# Altium schematic symbol library Transistor_BJT.SchLib: 390 symbols (part 1 of 3)
Pins are listed as number, name and electrical type; pins without a type are passive.

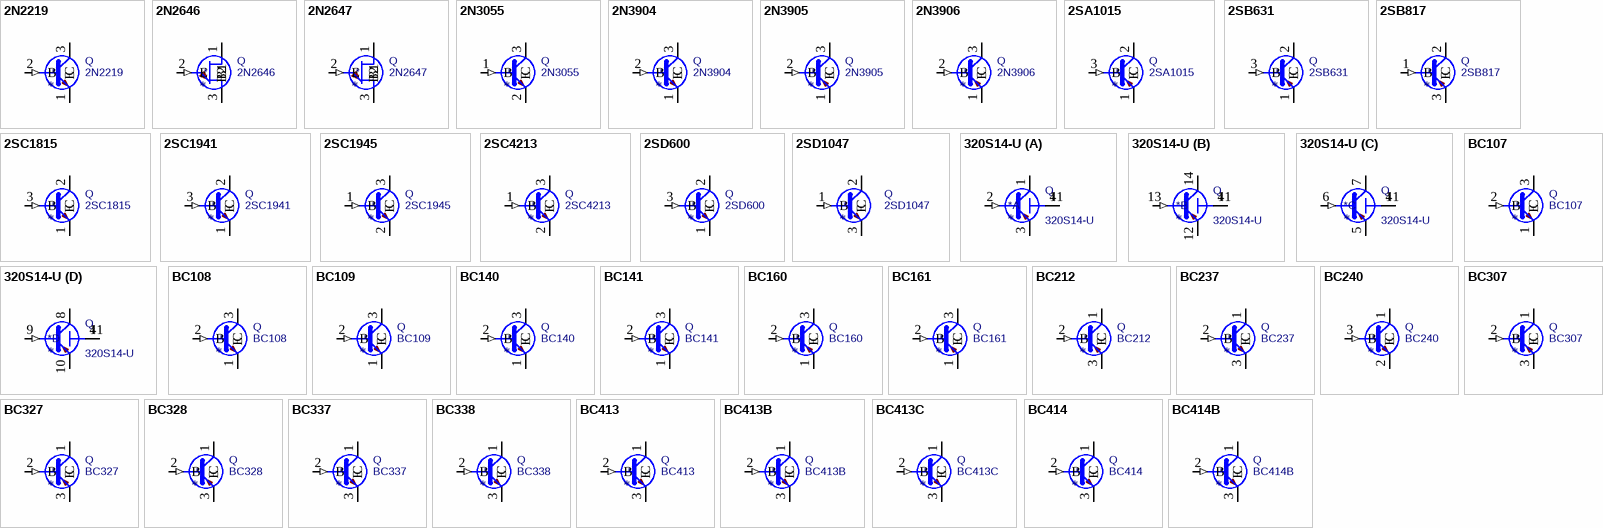
[diagram p0: symbols 2N2219 to BC414B]

## 2N2219
designator *  value 2N2219  Reference: Q
800mA Ic, 50V Vce, NPN Transistor, TO-39; ki_fp_filters: TO?39*; Footprint: Package_TO_SOT_THT:TO-39-3; Datasheet: http://www.onsemi.com/pub_link/Collateral/2N2219-D.PDF; Description_: 800mA Ic, 50V Vce, NPN Transistor, TO-39; ki_keywords: NPN Transistor
pins: 1 E, 2 B (in), 3 C

## 2N2646
designator *  value 2N2646  Reference: Q
Unijunction Transistor, TO-18; ki_keywords: UJT; ki_fp_filters: TO?18*; Footprint: Package_TO_SOT_THT:TO-18-3; Datasheet: http://www.bucek.name/pdf/2n2646,2647.pdf; Description_: Unijunction Transistor, TO-18
pins: 1 B2, 2 E (in), 3 B1

## 2N2647
designator *  value 2N2647  Reference: Q
Unijunction Transistor, TO-18; ki_keywords: UJT; ki_fp_filters: TO?18*; Footprint: Package_TO_SOT_THT:TO-18-3; Datasheet: http://www.bucek.name/pdf/2n2646,2647.pdf; Description_: Unijunction Transistor, TO-18
pins: 1 B2, 2 E (in), 3 B1

## 2N3055
designator *  value 2N3055  Reference: Q
15A Ic, 60V Vce, Power NPN Transistor, TO-3; ki_fp_filters: TO?3*; Footprint: Package_TO_SOT_THT:TO-3; Datasheet: http://www.onsemi.com/pub_link/Collateral/2N3055-D.PDF; Description_: 15A Ic, 60V Vce, Power NPN Transistor, TO-3; ki_keywords: power NPN Transistor
pins: 1 B (in), 2 E, 3 C

## 2N3904
designator *  value 2N3904  Reference: Q
0.2A Ic, 40V Vce, Small Signal NPN Transistor, TO-92; ki_fp_filters: TO?92*; Footprint: Package_TO_SOT_THT:TO-92_Inline; Datasheet: https://www.onsemi.com/pub/Collateral/2N3903-D.PDF; Description_: 0.2A Ic, 40V Vce, Small Signal NPN Transistor, TO-92; ki_keywords: NPN Transistor
pins: 1 E, 2 B (in), 3 C

## 2N3905
designator *  value 2N3905  Reference: Q
-0.2A Ic, -40V Vce, Small Signal PNP Transistor, TO-92; ki_fp_filters: TO?92*; Footprint: Package_TO_SOT_THT:TO-92_Inline; Datasheet: https://www.nteinc.com/specs/original/2N3905_06.pdf; Description_: -0.2A Ic, -40V Vce, Small Signal PNP Transistor, TO-92; ki_keywords: PNP Transistor
pins: 1 E, 2 B (in), 3 C

## 2N3906
designator *  value 2N3906  Reference: Q
-0.2A Ic, -40V Vce, Small Signal PNP Transistor, TO-92; ki_fp_filters: TO?92*; Footprint: Package_TO_SOT_THT:TO-92_Inline; Datasheet: https://www.onsemi.com/pub/Collateral/2N3906-D.PDF; Description_: -0.2A Ic, -40V Vce, Small Signal PNP Transistor, TO-92; ki_keywords: PNP Transistor
pins: 1 E, 2 B (in), 3 C

## 2SA1015
designator *  value 2SA1015  Reference: Q
-0.15A Ic, -50V Vce, Low Noise Audio PNP Transistor, TO-92; ki_fp_filters: TO?92*; Footprint: Package_TO_SOT_THT:TO-92_Inline; Datasheet: http://www.datasheetcatalog.org/datasheet/toshiba/905.pdf; Description_: -0.15A Ic, -50V Vce, Low Noise Audio PNP Transistor, TO-92; ki_keywords: Low Noise Audio PNP Transistor
pins: 1 E, 2 C, 3 B (in)

## 2SB631
designator *  value 2SB631  Reference: Q
-1A Ic, -100V Vce, High Voltage Power PNP Transistor, TO-126; ki_keywords: High Voltage Transistor; ki_fp_filters: TO?126*; Footprint: Package_TO_SOT_THT:TO-126-3_Vertical; Datasheet: http://pdf.datasheetcatalog.com/datasheet/sanyo/ds_pdf_e/2SB631.pdf; Description_: -1A Ic, -100V Vce, High Voltage Power PNP Transistor, TO-126
pins: 1 E, 2 C, 3 B (in)

## 2SB817
designator *  value 2SB817  Reference: Q
-12A Ic, -140V Vce, Silicon Power PNP Transistors, TO-3PB; ki_fp_filters: TO?3PB*; Footprint: Package_TO_SOT_THT:TO-3PB-3_Vertical; Datasheet: http://skory.gylcomp.hu/alkatresz/2SB817.pdf; Description_: -12A Ic, -140V Vce, Silicon Power PNP Transistors, TO-3PB; ki_keywords: Power PNP Transistor
pins: 1 B (in), 2 C, 3 E

## 2SC1815
designator *  value 2SC1815  Reference: Q
0.15A Ic, 50V Vce, Low Noise Audio NPN Transistor, TO-92; ki_fp_filters: TO?92*; Footprint: Package_TO_SOT_THT:TO-92_Inline; Datasheet: https://media.digikey.com/pdf/Data%20Sheets/Toshiba%20PDFs/2SC1815.pdf; Description_: 0.15A Ic, 50V Vce, Low Noise Audio NPN Transistor, TO-92; ki_keywords: Low Noise Audio NPN Transistor
pins: 1 E, 2 C, 3 B (in)

## 2SC1941
designator *  value 2SC1941  Reference: Q
50mA Ic, 160V Vce, Audio High Voltage NPN Transistor, TO-92; ki_fp_filters: TO?92*; Footprint: Package_TO_SOT_THT:TO-92_Inline; Datasheet: http://rtellason.com/transdata/2sc1941.pdf; Description_: 50mA Ic, 160V Vce, Audio High Voltage NPN Transistor, TO-92; ki_keywords: Audio High Voltage NPN Transistor
pins: 1 E, 2 C, 3 B (in)

## 2SC1945
designator *  value 2SC1945  Reference: Q
6A Ic, 80V Vce, Silicon 27MHz RF Power NPN Transistors, TO-220; ki_fp_filters: TO?220*; Footprint: Package_TO_SOT_THT:TO-220-3_Vertical; Datasheet: http://rtellason.com/transdata/2sc1945.pdf; Description_: 6A Ic, 80V Vce, Silicon 27MHz RF Power NPN Transistors, TO-220; ki_keywords: RF Power NPN Transistor
pins: 1 B (in), 2 E, 3 C

## 2SC4213
designator *  value 2SC4213  Reference: Q
0.3A Ic, 20V Vce, NPN Transistor, For Muting and Switching, SOT-323; ki_fp_filters: SOT?323*; Footprint: Package_TO_SOT_SMD:SOT-323_SC-70; Datasheet: https://toshiba.semicon-storage.com/info/docget.jsp?did=19305&prodName=2SC4213; Description_: 0.3A Ic, 20V Vce, NPN Transistor, For Muting and Switching, SOT-323; ki_keywords: NPN Transistor
pins: 1 B (in), 2 E, 3 C

## 2SD600
designator *  value 2SD600  Reference: Q
1A Ic, 100V Vce, High Voltage Power NPN Transistor, TO-126; ki_keywords: High Voltage Power Transistor; ki_fp_filters: TO?126*; Footprint: Package_TO_SOT_THT:TO-126-3_Vertical; Datasheet: http://pdf.datasheetcatalog.com/datasheet/sanyo/ds_pdf_e/2SB631.pdf; Description_: 1A Ic, 100V Vce, High Voltage Power NPN Transistor, TO-126
pins: 1 E, 2 C, 3 B (in)

## 2SD1047
designator *  value 2SD1047  Reference: Q
12A Ic, 140V Vce, Silicon Power NPN Transistors, TO-3PB; ki_fp_filters: TO?3PB*; Footprint: Package_TO_SOT_THT:TO-3PB-3_Vertical; Datasheet: http://www.st.com/resource/en/datasheet/2sd1047.pdf; Description_: 12A Ic, 140V Vce, Silicon Power NPN Transistors, TO-3PB; ki_keywords: Power NPN Transistor
pins: 1 B (in), 2 C, 3 E

## 320S14-U
designator *  value 320S14-U  Reference: Q
4 Matched PNP Transistors, hfe=75, SOIC-14; ki_keywords: dual pair pnp matched transistors; ki_fp_filters: SOIC*3.9x8.7mm*P1.27mm*; Footprint: Package_SO:SOIC-14_3.9x8.7mm_P1.27mm; Datasheet: https://www.thatcorp.com/datashts/THAT_300-Series_Datasheet.pdf; Description_: 4 Matched PNP Transistors, hfe=75, SOIC-14
part A pins: 1, 2 (in), 3, 4, 11
part B pins: 4, 11, 12, 13 (in), 14
part C pins: 4, 5, 6 (in), 7, 11
part D pins: 4, 8, 9 (in), 10, 11

## BC107
designator *  value BC107  Reference: Q
0.1A Ic, 50V Vce, Low Noise General Purpose NPN Transistor, TO-18; ki_keywords: NPN low noise transistor; ki_fp_filters: TO?18*; Footprint: Package_TO_SOT_THT:TO-18-3; Datasheet: http://www.b-kainka.de/Daten/Transistor/BC108.pdf; Description_: 0.1A Ic, 50V Vce, Low Noise General Purpose NPN Transistor, TO-18
pins: 1 E, 2 B (in), 3 C

## BC108
designator *  value BC108  Reference: Q
0.1A Ic, 30V Vce, Low Noise General Purpose NPN Transistor, TO-18; ki_keywords: NPN low noise transistor; ki_fp_filters: TO?18*; Footprint: Package_TO_SOT_THT:TO-18-3; Datasheet: http://www.b-kainka.de/Daten/Transistor/BC108.pdf; Description_: 0.1A Ic, 30V Vce, Low Noise General Purpose NPN Transistor, TO-18
pins: 1 E, 2 B (in), 3 C

## BC109
designator *  value BC109  Reference: Q
0.2A Ic, 25V Vce, Low Noise General Purpose NPN Transistor, TO-18; ki_keywords: NPN low noise transistor; ki_fp_filters: TO?18*; Footprint: Package_TO_SOT_THT:TO-18-3; Datasheet: http://www.farnell.com/datasheets/296634.pdf; Description_: 0.2A Ic, 25V Vce, Low Noise General Purpose NPN Transistor, TO-18
pins: 1 E, 2 B (in), 3 C

## BC140
designator *  value BC140  Reference: Q
1A Ic, 40V Vce, NPN Transistor, TO-39; ki_fp_filters: TO?39*; Footprint: Package_TO_SOT_THT:TO-39-3; Datasheet: http://www.farnell.com/datasheets/296634.pdf; Description_: 1A Ic, 40V Vce, NPN Transistor, TO-39; ki_keywords: NPN Transistor
pins: 1 E, 2 B (in), 3 C

## BC141
designator *  value BC141  Reference: Q
1A Ic, 60V Vce, NPN Transistor, TO-39; ki_fp_filters: TO?39*; Footprint: Package_TO_SOT_THT:TO-39-3; Datasheet: http://www.farnell.com/datasheets/296634.pdf; Description_: 1A Ic, 60V Vce, NPN Transistor, TO-39; ki_keywords: NPN Transistor
pins: 1 E, 2 B (in), 3 C

## BC160
designator *  value BC160  Reference: Q
1A Ic, 40V Vce, Power PNP Transistor, TO-39; ki_fp_filters: TO?39*; Footprint: Package_TO_SOT_THT:TO-39-3; Datasheet: http://www.farnell.com/datasheets/1697389.pdf; Description_: 1A Ic, 40V Vce, Power PNP Transistor, TO-39; ki_keywords: power PNP Transistor
pins: 1 E, 2 B (in), 3 C

## BC161
designator *  value BC161  Reference: Q
1A Ic, 60V Vce, Power PNP Transistor, TO-39; ki_fp_filters: TO?39*; Footprint: Package_TO_SOT_THT:TO-39-3; Datasheet: http://www.farnell.com/datasheets/1697389.pdf; Description_: 1A Ic, 60V Vce, Power PNP Transistor, TO-39; ki_keywords: power PNP Transistor
pins: 1 E, 2 B (in), 3 C

## BC212
designator *  value BC212  Reference: Q
0.3A Ic, 50V Vce, PNP Transistor, TO-92; ki_fp_filters: TO?92*; Footprint: Package_TO_SOT_THT:TO-92_Inline; Datasheet: https://media.digikey.com/pdf/Data%20Sheets/Fairchild%20PDFs/BC212.pdf; Description_: 0.3A Ic, 50V Vce, PNP Transistor, TO-92; ki_keywords: PNP Transistor
pins: 1 C, 2 B (in), 3 E

## BC237
designator *  value BC237  Reference: Q
100mA Ic, 50V Vce, Epitaxial Silicon NPN Transistor, TO-92; ki_fp_filters: TO?92*; Footprint: Package_TO_SOT_THT:TO-92_Inline; Datasheet: http://www.onsemi.com/pub_link/Collateral/BC237-D.PDF; Description_: 100mA Ic, 50V Vce, Epitaxial Silicon NPN Transistor, TO-92; ki_keywords: Epitaxial Silicon NPN Transistor
pins: 1 C, 2 B (in), 3 E

## BC240
designator *  value BC240  Reference: Q
50mA Ic, 40V Vce, RF Signal NPN Transistor, TO-92; ki_keywords: RF NPN Transistor; ki_fp_filters: TO?92*; Footprint: Package_TO_SOT_THT:TO-92_Inline; Datasheet: https://www.onsemi.com/pub/Collateral/BF420-D.PDF; Description_: 50mA Ic, 40V Vce, RF Signal NPN Transistor, TO-92
pins: 1 C, 2 E, 3 B (in)

## BC307
designator *  value BC307  Reference: Q
100mA Ic, 45V Vce, Epitaxial Silicon PNP Transistor, TO-92; ki_fp_filters: TO?92*; Footprint: Package_TO_SOT_THT:TO-92_Inline; Datasheet: http://www.onsemi.com/pub_link/Collateral/BC307-D.PDF; Description_: 100mA Ic, 45V Vce, Epitaxial Silicon PNP Transistor, TO-92; ki_keywords: Epitaxial Silicon PNP Transistor
pins: 1 C, 2 B (in), 3 E

## BC327
designator *  value BC327  Reference: Q
0.8A Ic, 45V Vce, PNP Transistor, TO-92; ki_fp_filters: TO?92*; Footprint: Package_TO_SOT_THT:TO-92_Inline; Datasheet: http://www.onsemi.com/pub_link/Collateral/BC327-D.PDF; Description_: 0.8A Ic, 45V Vce, PNP Transistor, TO-92; ki_keywords: PNP Transistor
pins: 1 C, 2 B (in), 3 E

## BC328
designator *  value BC328  Reference: Q
0.8A Ic, 25V Vce, PNP Transistor, TO-92; ki_fp_filters: TO?92*; Footprint: Package_TO_SOT_THT:TO-92_Inline; Datasheet: http://www.redrok.com/PNP_BC327_-45V_-800mA_0.625W_Hfe100_TO-92.pdf; Description_: 0.8A Ic, 25V Vce, PNP Transistor, TO-92; ki_keywords: PNP Transistor
pins: 1 C, 2 B (in), 3 E

## BC337
designator *  value BC337  Reference: Q
0.8A Ic, 45V Vce, NPN Transistor, TO-92; ki_fp_filters: TO?92*; Footprint: Package_TO_SOT_THT:TO-92_Inline; Datasheet: https://diotec.com/tl_files/diotec/files/pdf/datasheets/bc337.pdf; Description_: 0.8A Ic, 45V Vce, NPN Transistor, TO-92; ki_keywords: NPN Transistor
pins: 1 C, 2 B (in), 3 E

## BC338
designator *  value BC338  Reference: Q
0.8A Ic, 25V Vce, NPN Transistor, TO-92; ki_fp_filters: TO?92*; Footprint: Package_TO_SOT_THT:TO-92_Inline; Datasheet: http://diotec.com/tl_files/diotec/files/pdf/datasheets/bc337; Description_: 0.8A Ic, 25V Vce, NPN Transistor, TO-92; ki_keywords: NPN Transistor
pins: 1 C, 2 B (in), 3 E

## BC413
designator *  value BC413  Reference: Q
0.1A Ic, 30V Vce, Small Signal NPN Transistor, TO-92; ki_fp_filters: TO?92*; Footprint: Package_TO_SOT_THT:TO-92_Inline; Datasheet: http://www.cdil.com/datasheets/bc413_14_b_c.pdf; Description_: 0.1A Ic, 30V Vce, Small Signal NPN Transistor, TO-92; ki_keywords: NPN Transistor
pins: 1 C, 2 B (in), 3 E

## BC413B
designator *  value BC413B  Reference: Q
0.1A Ic, 30V Vce, Small Signal NPN Transistor, TO-92; ki_fp_filters: TO?92*; Footprint: Package_TO_SOT_THT:TO-92_Inline; Datasheet: http://www.cdil.com/datasheets/bc413_14_b_c.pdf; Description_: 0.1A Ic, 30V Vce, Small Signal NPN Transistor, TO-92; ki_keywords: NPN Transistor
pins: 1 C, 2 B (in), 3 E

## BC413C
designator *  value BC413C  Reference: Q
0.1A Ic, 30V Vce, Small Signal NPN Transistor, TO-92; ki_fp_filters: TO?92*; Footprint: Package_TO_SOT_THT:TO-92_Inline; Datasheet: http://www.cdil.com/datasheets/bc413_14_b_c.pdf; Description_: 0.1A Ic, 30V Vce, Small Signal NPN Transistor, TO-92; ki_keywords: NPN Transistor
pins: 1 C, 2 B (in), 3 E

## BC414
designator *  value BC414  Reference: Q
0.1A Ic, 45V Vce, Small Signal NPN Transistor, TO-92; ki_fp_filters: TO?92*; Footprint: Package_TO_SOT_THT:TO-92_Inline; Datasheet: http://www.cdil.com/datasheets/bc413_14_b_c.pdf; Description_: 0.1A Ic, 45V Vce, Small Signal NPN Transistor, TO-92; ki_keywords: NPN Transistor
pins: 1 C, 2 B (in), 3 E

## BC414B
designator *  value BC414B  Reference: Q
0.1A Ic, 45V Vce, Small Signal NPN Transistor, TO-92; ki_fp_filters: TO?92*; Footprint: Package_TO_SOT_THT:TO-92_Inline; Datasheet: http://www.cdil.com/datasheets/bc413_14_b_c.pdf; Description_: 0.1A Ic, 45V Vce, Small Signal NPN Transistor, TO-92; ki_keywords: NPN Transistor
pins: 1 C, 2 B (in), 3 E

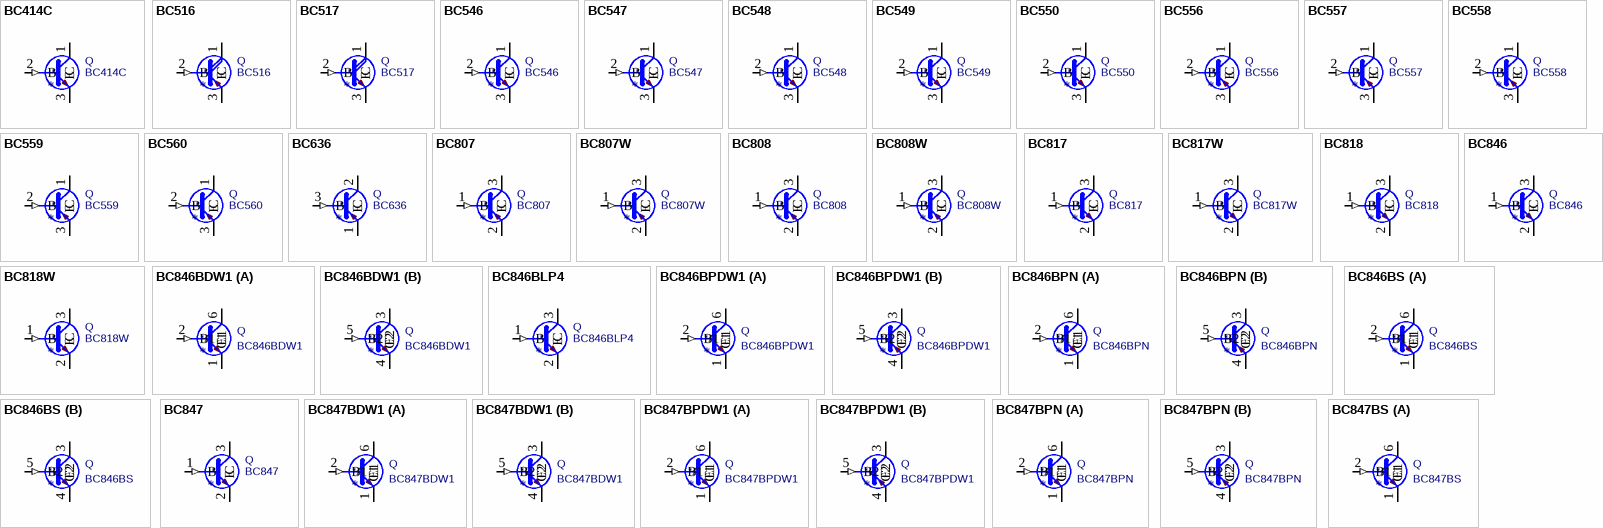
[diagram p1: symbols BC414C to BC847BS]

## BC414C
designator *  value BC414C  Reference: Q
0.1A Ic, 45V Vce, Small Signal NPN Transistor, TO-92; ki_fp_filters: TO?92*; Footprint: Package_TO_SOT_THT:TO-92_Inline; Datasheet: http://www.cdil.com/datasheets/bc413_14_b_c.pdf; Description_: 0.1A Ic, 45V Vce, Small Signal NPN Transistor, TO-92; ki_keywords: NPN Transistor
pins: 1 C, 2 B (in), 3 E

## BC516
designator *  value BC516  Reference: Q
1A Ic, 30V Vce, Darlington PNP Transistor, TO-92; ki_keywords: PNP Darlington Darl Transistor; ki_fp_filters: TO?92*; Footprint: Package_TO_SOT_THT:TO-92_Inline; Datasheet: https://www.onsemi.com/pub/Collateral/BC516-D.PDF; Description_: 1A Ic, 30V Vce, Darlington PNP Transistor, TO-92
pins: 1 C, 2 B (in), 3 E

## BC517
designator *  value BC517  Reference: Q
1A Ic, 30V Vce, Darlington NPN Transistor, TO-92; ki_keywords: NPN Darlington Darl Transistor; ki_fp_filters: TO?92*; Footprint: Package_TO_SOT_THT:TO-92_Inline; Datasheet: https://www.onsemi.com/pub/Collateral/BC517-D74Z-D.PDF; Description_: 1A Ic, 30V Vce, Darlington NPN Transistor, TO-92
pins: 1 C, 2 B (in), 3 E

## BC546
designator *  value BC546  Reference: Q
0.1A Ic, 65V Vce, Small Signal NPN Transistor, TO-92; ki_fp_filters: TO?92*; Footprint: Package_TO_SOT_THT:TO-92_Inline; Datasheet: https://www.onsemi.com/pub/Collateral/BC550-D.pdf; Description_: 0.1A Ic, 65V Vce, Small Signal NPN Transistor, TO-92; ki_keywords: NPN Transistor
pins: 1 C, 2 B (in), 3 E

## BC547
designator *  value BC547  Reference: Q
0.1A Ic, 45V Vce, Small Signal NPN Transistor, TO-92; ki_fp_filters: TO?92*; Footprint: Package_TO_SOT_THT:TO-92_Inline; Datasheet: https://www.onsemi.com/pub/Collateral/BC550-D.pdf; Description_: 0.1A Ic, 45V Vce, Small Signal NPN Transistor, TO-92; ki_keywords: NPN Transistor
pins: 1 C, 2 B (in), 3 E

## BC548
designator *  value BC548  Reference: Q
0.1A Ic, 30V Vce, Small Signal NPN Transistor, TO-92; ki_fp_filters: TO?92*; Footprint: Package_TO_SOT_THT:TO-92_Inline; Datasheet: https://www.onsemi.com/pub/Collateral/BC550-D.pdf; Description_: 0.1A Ic, 30V Vce, Small Signal NPN Transistor, TO-92; ki_keywords: NPN Transistor
pins: 1 C, 2 B (in), 3 E

## BC549
designator *  value BC549  Reference: Q
0.1A Ic, 30V Vce, Small Signal NPN Transistor, TO-92; ki_fp_filters: TO?92*; Footprint: Package_TO_SOT_THT:TO-92_Inline; Datasheet: https://www.onsemi.com/pub/Collateral/BC550-D.pdf; Description_: 0.1A Ic, 30V Vce, Small Signal NPN Transistor, TO-92; ki_keywords: NPN Transistor
pins: 1 C, 2 B (in), 3 E

## BC550
designator *  value BC550  Reference: Q
0.1A Ic, 45V Vce, Small Signal NPN Transistor, TO-92; ki_fp_filters: TO?92*; Footprint: Package_TO_SOT_THT:TO-92_Inline; Datasheet: https://www.onsemi.com/pub/Collateral/BC550-D.pdf; Description_: 0.1A Ic, 45V Vce, Small Signal NPN Transistor, TO-92; ki_keywords: NPN Transistor
pins: 1 C, 2 B (in), 3 E

## BC556
designator *  value BC556  Reference: Q
0.1A Ic, 65V Vce, PNP Small Signal Transistor, TO-92; ki_keywords: PNP Transistor; ki_fp_filters: TO?92*; Footprint: Package_TO_SOT_THT:TO-92_Inline; Datasheet: https://www.onsemi.com/pub/Collateral/BC556BTA-D.pdf; Description_: 0.1A Ic, 65V Vce, PNP Small Signal Transistor, TO-92
pins: 1 C, 2 B (in), 3 E

## BC557
designator *  value BC557  Reference: Q
0.1A Ic, 45V Vce, PNP Small Signal Transistor, TO-92; ki_keywords: PNP Transistor; ki_fp_filters: TO?92*; Footprint: Package_TO_SOT_THT:TO-92_Inline; Datasheet: https://www.onsemi.com/pub/Collateral/BC556BTA-D.pdf; Description_: 0.1A Ic, 45V Vce, PNP Small Signal Transistor, TO-92
pins: 1 C, 2 B (in), 3 E

## BC558
designator *  value BC558  Reference: Q
0.1A Ic, 30V Vce, PNP Small Signal Transistor, TO-92; ki_keywords: PNP Transistor; ki_fp_filters: TO?92*; Footprint: Package_TO_SOT_THT:TO-92_Inline; Datasheet: https://www.onsemi.com/pub/Collateral/BC556BTA-D.pdf; Description_: 0.1A Ic, 30V Vce, PNP Small Signal Transistor, TO-92
pins: 1 C, 2 B (in), 3 E

## BC559
designator *  value BC559  Reference: Q
0.1A Ic, 30V Vce, PNP Small Signal Transistor, TO-92; ki_keywords: PNP Transistor; ki_fp_filters: TO?92*; Footprint: Package_TO_SOT_THT:TO-92_Inline; Datasheet: https://www.onsemi.com/pub/Collateral/BC556BTA-D.pdf; Description_: 0.1A Ic, 30V Vce, PNP Small Signal Transistor, TO-92
pins: 1 C, 2 B (in), 3 E

## BC560
designator *  value BC560  Reference: Q
0.1A Ic, 45V Vce, PNP Small Signal Transistor, TO-92; ki_keywords: PNP Transistor; ki_fp_filters: TO?92*; Footprint: Package_TO_SOT_THT:TO-92_Inline; Datasheet: https://www.onsemi.com/pub/Collateral/BC556BTA-D.pdf; Description_: 0.1A Ic, 45V Vce, PNP Small Signal Transistor, TO-92
pins: 1 C, 2 B (in), 3 E

## BC636
designator *  value BC636  Reference: Q
1A Ic, 45V Vce, PNP Medium Power Transistor, TO-92; ki_keywords: PNP Transistor; ki_fp_filters: TO?92*; Footprint: Package_TO_SOT_THT:TO-92_Inline; Datasheet: https://www.onsemi.com/pub/Collateral/BC636-D.pdf; Description_: 1A Ic, 45V Vce, PNP Medium Power Transistor, TO-92
pins: 1 E, 2 C, 3 B (in)

## BC807
designator *  value BC807  Reference: Q
0.8A Ic, 45V Vce, PNP Transistor, SOT-23; ki_fp_filters: SOT?23*; Footprint: Package_TO_SOT_SMD:SOT-23; Datasheet: https://www.onsemi.com/pub/Collateral/BC808-D.pdf; Description_: 0.8A Ic, 45V Vce, PNP Transistor, SOT-23; ki_keywords: PNP Transistor
pins: 1 B (in), 2 E, 3 C

## BC807W
designator *  value BC807W  Reference: Q
0.8A Ic, 45V Vce, PNP Transistor, SOT-323; ki_fp_filters: SOT?323*; Footprint: Package_TO_SOT_SMD:SOT-323_SC-70; Datasheet: https://www.onsemi.com/pub/Collateral/BC808-D.pdf; Description_: 0.8A Ic, 45V Vce, PNP Transistor, SOT-323; ki_keywords: PNP transistor
pins: 1 B (in), 2 E, 3 C

## BC808
designator *  value BC808  Reference: Q
0.8A Ic, 25V Vce, PNP Transistor, SOT-23; ki_fp_filters: SOT?23*; Footprint: Package_TO_SOT_SMD:SOT-23; Datasheet: https://www.onsemi.com/pub/Collateral/BC808-D.pdf; Description_: 0.8A Ic, 25V Vce, PNP Transistor, SOT-23; ki_keywords: PNP Transistor
pins: 1 B (in), 2 E, 3 C

## BC808W
designator *  value BC808W  Reference: Q
0.8A Ic, 25V Vce, PNP Transistor, SOT-323; ki_fp_filters: SOT?323*; Footprint: Package_TO_SOT_SMD:SOT-323_SC-70; Datasheet: https://www.onsemi.com/pub/Collateral/BC808-D.pdf; Description_: 0.8A Ic, 25V Vce, PNP Transistor, SOT-323; ki_keywords: PNP transistor
pins: 1 B (in), 2 E, 3 C

## BC817
designator *  value BC817  Reference: Q
0.8A Ic, 45V Vce, NPN Transistor, SOT-23; ki_fp_filters: SOT?23*; Footprint: Package_TO_SOT_SMD:SOT-23; Datasheet: https://www.onsemi.com/pub/Collateral/BC818-D.pdf; Description_: 0.8A Ic, 45V Vce, NPN Transistor, SOT-23; ki_keywords: NPN Transistor
pins: 1 B (in), 2 E, 3 C

## BC817W
designator *  value BC817W  Reference: Q
0.8A Ic, 45V Vce, NPN Transistor, SOT-323; ki_fp_filters: SOT?323*; Footprint: Package_TO_SOT_SMD:SOT-323_SC-70; Datasheet: https://www.onsemi.com/pub/Collateral/BC818-D.pdf; Description_: 0.8A Ic, 45V Vce, NPN Transistor, SOT-323; ki_keywords: NPN Transistor
pins: 1 B (in), 2 E, 3 C

## BC818
designator *  value BC818  Reference: Q
0.8A Ic, 25V Vce, NPN Transistor, SOT-23; ki_fp_filters: SOT?23*; Footprint: Package_TO_SOT_SMD:SOT-23; Datasheet: https://www.onsemi.com/pub/Collateral/BC818-D.pdf; Description_: 0.8A Ic, 25V Vce, NPN Transistor, SOT-23; ki_keywords: NPN Transistor
pins: 1 B (in), 2 E, 3 C

## BC818W
designator *  value BC818W  Reference: Q
0.8A Ic, 25V Vce, NPN Transistor, SOT-323; ki_fp_filters: SOT?323*; Footprint: Package_TO_SOT_SMD:SOT-323_SC-70; Datasheet: https://www.onsemi.com/pub/Collateral/BC818-D.pdf; Description_: 0.8A Ic, 25V Vce, NPN Transistor, SOT-323; ki_keywords: NPN Transistor
pins: 1 B (in), 2 E, 3 C

## BC846
designator *  value BC846  Reference: Q
0.1A Ic, 65V Vce, NPN Transistor, SOT-23; ki_fp_filters: SOT?23*; Footprint: Package_TO_SOT_SMD:SOT-23; Datasheet: https://assets.nexperia.com/documents/data-sheet/BC846_SER.pdf; Description_: 0.1A Ic, 65V Vce, NPN Transistor, SOT-23; ki_keywords: NPN Transistor
pins: 1 B (in), 2 E, 3 C

## BC846BDW1
designator *  value BC846BDW1  Reference: Q
100mA IC, 65V Vce, Dual NPN/NPN Transistors, SOT-363; ki_fp_filters: SOT?363*; Footprint: Package_TO_SOT_SMD:SOT-363_SC-70-6; Datasheet: http://www.onsemi.com/pub_link/Collateral/BC846BDW1T1-D.PDF; Description_: 100mA IC, 65V Vce, Dual NPN/NPN Transistors, SOT-363; ki_keywords: NPN/NPN Transistor
part A pins: 1 E1, 2 B1 (in), 6 C1
part B pins: 3 C2, 4 E2, 5 B2 (in)

## BC846BLP4
designator *  value BC846BLP4  Reference: Q
0.1A Ic, 65V Vce, NPN Transistor, DFN1006-3; ki_fp_filters: Diodes*DFN1006*; Footprint: Package_DFN_QFN:Diodes_DFN1006-3; Datasheet: https://www.diodes.com/datasheet/download/BC846BLP4.pdf; Description_: 0.1A Ic, 65V Vce, NPN Transistor, DFN1006-3; ki_keywords: NPN Transistor
pins: 1 B (in), 2 E, 3 C

## BC846BPDW1
designator *  value BC846BPDW1  Reference: Q
100mA IC, 65V Vce, Dual NPN/PNP Transistors, SOT-363; ki_fp_filters: SOT?363*; Footprint: Package_TO_SOT_SMD:SOT-363_SC-70-6; Datasheet: http://www.onsemi.com/pub_link/Collateral/BC846BPDW1T1-D.PDF; Description_: 100mA IC, 65V Vce, Dual NPN/PNP Transistors, SOT-363; ki_keywords: NPN/PNP Transistor
part A pins: 1 E1, 2 B1 (in), 6 C1
part B pins: 3 C2, 4 E2, 5 B2 (in)

## BC846BPN
designator *  value BC846BPN  Reference: Q
100mA IC, 65V Vce, Dual NPN/PNP Transistors, SOT-363; ki_fp_filters: SOT?363*; Footprint: Package_TO_SOT_SMD:SOT-363_SC-70-6; Datasheet: https://assets.nexperia.com/documents/data-sheet/BC846BPN.pdf; Description_: 100mA IC, 65V Vce, Dual NPN/PNP Transistors, SOT-363; ki_keywords: NPN/PNP Transistor
part A pins: 1 E1, 2 B1 (in), 6 C1
part B pins: 3 C2, 4 E2, 5 B2 (in)

## BC846BS
designator *  value BC846BS  Reference: Q
100mA IC, 65V Vce, Dual NPN/NPN Transistors, SOT-363; ki_fp_filters: SOT?363*; Footprint: Package_TO_SOT_SMD:SOT-363_SC-70-6; Datasheet: https://assets.nexperia.com/documents/data-sheet/BC846BS.pdf; Description_: 100mA IC, 65V Vce, Dual NPN/NPN Transistors, SOT-363; ki_keywords: NPN/NPN Transistor
part A pins: 1 E1, 2 B1 (in), 6 C1
part B pins: 3 C2, 4 E2, 5 B2 (in)

## BC847
designator *  value BC847  Reference: Q
0.1A Ic, 45V Vce, NPN Transistor, SOT-23; ki_keywords: NPN Small Signal Transistor; ki_fp_filters: SOT?23*; Footprint: Package_TO_SOT_SMD:SOT-23; Datasheet: http://www.infineon.com/dgdl/Infineon-BC847SERIES_BC848SERIES_BC849SERIES_BC850SERIES-DS-v01_01-en.pdf?fileId=db3a304314dca389011541d4630a1657; Description_: 0.1A Ic, 45V Vce, NPN Transistor, SOT-23
pins: 1 B (in), 2 E, 3 C

## BC847BDW1
designator *  value BC847BDW1  Reference: Q
100mA IC, 45V Vce, Dual NPN/NPN Transistors, SOT-363; ki_fp_filters: SOT?363*; Footprint: Package_TO_SOT_SMD:SOT-363_SC-70-6; Datasheet: http://www.onsemi.com/pub_link/Collateral/BC846BDW1T1-D.PDF; Description_: 100mA IC, 45V Vce, Dual NPN/NPN Transistors, SOT-363; ki_keywords: NPN/NPN Transistor
part A pins: 1 E1, 2 B1 (in), 6 C1
part B pins: 3 C2, 4 E2, 5 B2 (in)

## BC847BPDW1
designator *  value BC847BPDW1  Reference: Q
100mA IC, 45V Vce, Dual NPN/PNP Transistors, SOT-363; ki_fp_filters: SOT?363*; Footprint: Package_TO_SOT_SMD:SOT-363_SC-70-6; Datasheet: http://www.onsemi.com/pub_link/Collateral/BC846BPDW1T1-D.PDF; Description_: 100mA IC, 45V Vce, Dual NPN/PNP Transistors, SOT-363; ki_keywords: NPN/PNP Transistor
part A pins: 1 E1, 2 B1 (in), 6 C1
part B pins: 3 C2, 4 E2, 5 B2 (in)

## BC847BPN
designator *  value BC847BPN  Reference: Q
100mA IC, 45V Vce, Dual NPN/PNP Transistors, SOT-363; ki_fp_filters: SOT?363*; Footprint: Package_TO_SOT_SMD:SOT-363_SC-70-6; Datasheet: https://assets.nexperia.com/documents/data-sheet/BC847BPN.pdf; Description_: 100mA IC, 45V Vce, Dual NPN/PNP Transistors, SOT-363; ki_keywords: NPN/PNP Transistor
part A pins: 1 E1, 2 B1 (in), 6 C1
part B pins: 3 C2, 4 E2, 5 B2 (in)

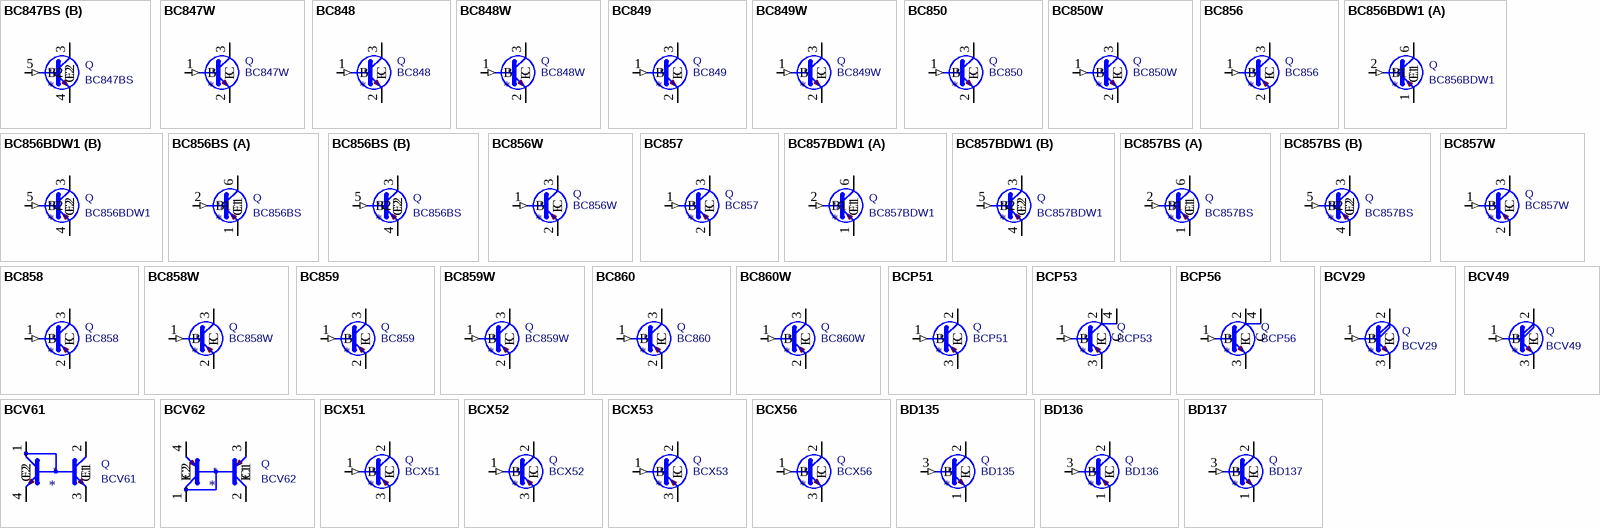
[diagram p2: symbols BC847BS to BD137]

## BC847BS
designator *  value BC847BS  Reference: Q
100mA IC, 45V Vce, Dual NPN/NPN Transistors, SOT-363; ki_fp_filters: SOT?363*; Footprint: Package_TO_SOT_SMD:SOT-363_SC-70-6; Datasheet: https://assets.nexperia.com/documents/data-sheet/BC847BS.pdf; Description_: 100mA IC, 45V Vce, Dual NPN/NPN Transistors, SOT-363; ki_keywords: NPN/NPN Transistor
part A pins: 1 E1, 2 B1 (in), 6 C1
part B pins: 3 C2, 4 E2, 5 B2 (in)

## BC847W
designator *  value BC847W  Reference: Q
0.1A Ic, 45V Vce, NPN Transistor, SOT-323; ki_keywords: NPN Small Signal Transistor; ki_fp_filters: SOT?323*; Footprint: Package_TO_SOT_SMD:SOT-323_SC-70; Datasheet: http://www.infineon.com/dgdl/Infineon-BC847SERIES_BC848SERIES_BC849SERIES_BC850SERIES-DS-v01_01-en.pdf?fileId=db3a304314dca389011541d4630a1657; Description_: 0.1A Ic, 45V Vce, NPN Transistor, SOT-323
pins: 1 B (in), 2 E, 3 C

## BC848
designator *  value BC848  Reference: Q
0.1A Ic, 30V Vce, NPN Transistor, SOT-23; ki_keywords: NPN Small Signal Transistor; ki_fp_filters: SOT?23*; Footprint: Package_TO_SOT_SMD:SOT-23; Datasheet: http://www.infineon.com/dgdl/Infineon-BC847SERIES_BC848SERIES_BC849SERIES_BC850SERIES-DS-v01_01-en.pdf?fileId=db3a304314dca389011541d4630a1657; Description_: 0.1A Ic, 30V Vce, NPN Transistor, SOT-23
pins: 1 B (in), 2 E, 3 C

## BC848W
designator *  value BC848W  Reference: Q
0.1A Ic, 30V Vce, NPN Transistor, SOT-323; ki_keywords: NPN Small Signal Transistor; ki_fp_filters: SOT?323*; Footprint: Package_TO_SOT_SMD:SOT-323_SC-70; Datasheet: http://www.infineon.com/dgdl/Infineon-BC847SERIES_BC848SERIES_BC849SERIES_BC850SERIES-DS-v01_01-en.pdf?fileId=db3a304314dca389011541d4630a1657; Description_: 0.1A Ic, 30V Vce, NPN Transistor, SOT-323
pins: 1 B (in), 2 E, 3 C

## BC849
designator *  value BC849  Reference: Q
0.1A Ic, 30V Vce, NPN Transistor, SOT-23; ki_keywords: NPN Small Signal Transistor; ki_fp_filters: SOT?23*; Footprint: Package_TO_SOT_SMD:SOT-23; Datasheet: http://www.infineon.com/dgdl/Infineon-BC847SERIES_BC848SERIES_BC849SERIES_BC850SERIES-DS-v01_01-en.pdf?fileId=db3a304314dca389011541d4630a1657; Description_: 0.1A Ic, 30V Vce, NPN Transistor, SOT-23
pins: 1 B (in), 2 E, 3 C

## BC849W
designator *  value BC849W  Reference: Q
0.1A Ic, 30V Vce, NPN Transistor, SOT-323; ki_keywords: NPN Small Signal Transistor; ki_fp_filters: SOT?323*; Footprint: Package_TO_SOT_SMD:SOT-323_SC-70; Datasheet: http://www.infineon.com/dgdl/Infineon-BC847SERIES_BC848SERIES_BC849SERIES_BC850SERIES-DS-v01_01-en.pdf?fileId=db3a304314dca389011541d4630a1657; Description_: 0.1A Ic, 30V Vce, NPN Transistor, SOT-323
pins: 1 B (in), 2 E, 3 C

## BC850
designator *  value BC850  Reference: Q
0.1A Ic, 45V Vce, NPN Transistor, SOT-23; ki_keywords: NPN Small Signal Transistor; ki_fp_filters: SOT?23*; Footprint: Package_TO_SOT_SMD:SOT-23; Datasheet: http://www.infineon.com/dgdl/Infineon-BC847SERIES_BC848SERIES_BC849SERIES_BC850SERIES-DS-v01_01-en.pdf?fileId=db3a304314dca389011541d4630a1657; Description_: 0.1A Ic, 45V Vce, NPN Transistor, SOT-23
pins: 1 B (in), 2 E, 3 C

## BC850W
designator *  value BC850W  Reference: Q
0.1A Ic, 45V Vce, NPN Transistor, SOT-323; ki_keywords: NPN Small Signal Transistor; ki_fp_filters: SOT?323*; Footprint: Package_TO_SOT_SMD:SOT-323_SC-70; Datasheet: http://www.infineon.com/dgdl/Infineon-BC847SERIES_BC848SERIES_BC849SERIES_BC850SERIES-DS-v01_01-en.pdf?fileId=db3a304314dca389011541d4630a1657; Description_: 0.1A Ic, 45V Vce, NPN Transistor, SOT-323
pins: 1 B (in), 2 E, 3 C

## BC856
designator *  value BC856  Reference: Q
0.1A Ic, 65V Vce, PNP Transistor, SOT-23; ki_fp_filters: SOT?23*; Footprint: Package_TO_SOT_SMD:SOT-23; Datasheet: https://www.onsemi.com/pub/Collateral/BC860-D.pdf; Description_: 0.1A Ic, 65V Vce, PNP Transistor, SOT-23; ki_keywords: PNP transistor
pins: 1 B (in), 2 E, 3 C

## BC856BDW1
designator *  value BC856BDW1  Reference: Q
100mA IC, 65V Vce, Dual PNP/PNP Transistors, SOT-363; ki_fp_filters: SOT?363*; Footprint: Package_TO_SOT_SMD:SOT-363_SC-70-6; Datasheet: http://www.onsemi.com/pub_link/Collateral/BC856BDW1T1-D.PDF; Description_: 100mA IC, 65V Vce, Dual PNP/PNP Transistors, SOT-363; ki_keywords: PNP/PNP Transistor
part A pins: 1 E1, 2 B1 (in), 6 C1
part B pins: 3 C2, 4 E2, 5 B2 (in)

## BC856BS
designator *  value BC856BS  Reference: Q
100mA IC, 65V Vce, Dual PNP/PNP Transistors, SOT-363; ki_fp_filters: SOT?363*; Footprint: Package_TO_SOT_SMD:SOT-363_SC-70-6; Datasheet: https://assets.nexperia.com/documents/data-sheet/BC856BS.pdf; Description_: 100mA IC, 65V Vce, Dual PNP/PNP Transistors, SOT-363; ki_keywords: PNP/PNP Transistor
part A pins: 1 E1, 2 B1 (in), 6 C1
part B pins: 3 C2, 4 E2, 5 B2 (in)

## BC856W
designator *  value BC856W  Reference: Q
0.1A Ic, 65V Vce, PNP Transistor, SOT-323; ki_fp_filters: SOT?323*; Footprint: Package_TO_SOT_SMD:SOT-323_SC-70; Datasheet: https://www.onsemi.com/pub/Collateral/BC860-D.pdf; Description_: 0.1A Ic, 65V Vce, PNP Transistor, SOT-323; ki_keywords: PNP transistor
pins: 1 B (in), 2 E, 3 C

## BC857
designator *  value BC857  Reference: Q
0.1A Ic, 45V Vce, PNP Transistor, SOT-23; ki_fp_filters: SOT?23*; Footprint: Package_TO_SOT_SMD:SOT-23; Datasheet: https://www.onsemi.com/pub/Collateral/BC860-D.pdf; Description_: 0.1A Ic, 45V Vce, PNP Transistor, SOT-23; ki_keywords: PNP transistor
pins: 1 B (in), 2 E, 3 C

## BC857BDW1
designator *  value BC857BDW1  Reference: Q
100mA IC, 45V Vce, Dual PNP/PNP Transistors, SOT-363; ki_fp_filters: SOT?363*; Footprint: Package_TO_SOT_SMD:SOT-363_SC-70-6; Datasheet: http://www.onsemi.com/pub_link/Collateral/BC856BDW1T1-D.PDF; Description_: 100mA IC, 45V Vce, Dual PNP/PNP Transistors, SOT-363; ki_keywords: PNP/PNP Transistor
part A pins: 1 E1, 2 B1 (in), 6 C1
part B pins: 3 C2, 4 E2, 5 B2 (in)

## BC857BS
designator *  value BC857BS  Reference: Q
100mA IC, 45V Vce, Dual PNP/PNP Transistors, SOT-363; ki_fp_filters: SOT?363*; Footprint: Package_TO_SOT_SMD:SOT-363_SC-70-6; Datasheet: https://assets.nexperia.com/documents/data-sheet/BC857BS.pdf; Description_: 100mA IC, 45V Vce, Dual PNP/PNP Transistors, SOT-363; ki_keywords: PNP/PNP Transistor
part A pins: 1 E1, 2 B1 (in), 6 C1
part B pins: 3 C2, 4 E2, 5 B2 (in)

## BC857W
designator *  value BC857W  Reference: Q
0.1A Ic, 45V Vce, PNP Small Signal Transistor, SOT-323; ki_keywords: PNP Transistor; ki_fp_filters: SOT?323*; Footprint: Package_TO_SOT_SMD:SOT-323_SC-70; Datasheet: http://www.infineon.com/dgdl/Infineon-BC857SERIES_BC858SERIES_BC859SERIES_BC860SERIES-DS-v01_01-en.pdf?fileId=db3a304314dca389011541da0e3a1661; Description_: 0.1A Ic, 45V Vce, PNP Small Signal Transistor, SOT-323
pins: 1 B (in), 2 E, 3 C

## BC858
designator *  value BC858  Reference: Q
0.1A Ic, 30V Vce, PNP Transistor, SOT-23; ki_fp_filters: SOT?23*; Footprint: Package_TO_SOT_SMD:SOT-23; Datasheet: https://www.onsemi.com/pub/Collateral/BC860-D.pdf; Description_: 0.1A Ic, 30V Vce, PNP Transistor, SOT-23; ki_keywords: PNP transistor
pins: 1 B (in), 2 E, 3 C

## BC858W
designator *  value BC858W  Reference: Q
0.1A Ic, 30V Vce, PNP Small Signal Transistor, SOT-323; ki_keywords: PNP Transistor; ki_fp_filters: SOT?323*; Footprint: Package_TO_SOT_SMD:SOT-323_SC-70; Datasheet: http://www.infineon.com/dgdl/Infineon-BC857SERIES_BC858SERIES_BC859SERIES_BC860SERIES-DS-v01_01-en.pdf?fileId=db3a304314dca389011541da0e3a1661; Description_: 0.1A Ic, 30V Vce, PNP Small Signal Transistor, SOT-323
pins: 1 B (in), 2 E, 3 C

## BC859
designator *  value BC859  Reference: Q
0.1A Ic, 30V Vce, PNP Small Signal Transistor, SOT-23; ki_keywords: PNP Transistor; ki_fp_filters: SOT?23*; Footprint: Package_TO_SOT_SMD:SOT-23; Datasheet: http://www.infineon.com/dgdl/Infineon-BC857SERIES_BC858SERIES_BC859SERIES_BC860SERIES-DS-v01_01-en.pdf?fileId=db3a304314dca389011541da0e3a1661; Description_: 0.1A Ic, 30V Vce, PNP Small Signal Transistor, SOT-23
pins: 1 B (in), 2 E, 3 C

## BC859W
designator *  value BC859W  Reference: Q
0.1A Ic, 30V Vce, PNP Small Signal Transistor, SOT-323; ki_keywords: PNP Transistor; ki_fp_filters: SOT?323*; Footprint: Package_TO_SOT_SMD:SOT-323_SC-70; Datasheet: http://www.infineon.com/dgdl/Infineon-BC857SERIES_BC858SERIES_BC859SERIES_BC860SERIES-DS-v01_01-en.pdf?fileId=db3a304314dca389011541da0e3a1661; Description_: 0.1A Ic, 30V Vce, PNP Small Signal Transistor, SOT-323
pins: 1 B (in), 2 E, 3 C

## BC860
designator *  value BC860  Reference: Q
0.1A Ic, 45V Vce, PNP Small Signal Transistor, SOT-23; ki_keywords: PNP Transistor; ki_fp_filters: SOT?23*; Footprint: Package_TO_SOT_SMD:SOT-23; Datasheet: http://www.infineon.com/dgdl/Infineon-BC857SERIES_BC858SERIES_BC859SERIES_BC860SERIES-DS-v01_01-en.pdf?fileId=db3a304314dca389011541da0e3a1661; Description_: 0.1A Ic, 45V Vce, PNP Small Signal Transistor, SOT-23
pins: 1 B (in), 2 E, 3 C

## BC860W
designator *  value BC860W  Reference: Q
0.1A Ic, 45V Vce, PNP Small Signal Transistor, SOT-323; ki_keywords: PNP Transistor; ki_fp_filters: SOT?323*; Footprint: Package_TO_SOT_SMD:SOT-323_SC-70; Datasheet: http://www.infineon.com/dgdl/Infineon-BC857SERIES_BC858SERIES_BC859SERIES_BC860SERIES-DS-v01_01-en.pdf?fileId=db3a304314dca389011541da0e3a1661; Description_: 0.1A Ic, 45V Vce, PNP Small Signal Transistor, SOT-323
pins: 1 B (in), 2 E, 3 C

## BCP51
designator *  value BCP51  Reference: Q
1A Ic, 45V Vce, PNP Medium Power Transistor, SOT-223; ki_keywords: PNP Transistor; ki_fp_filters: SOT?223*; Footprint: Package_TO_SOT_SMD:SOT-223-3_TabPin2; Datasheet: https://www.onsemi.com/pub/Collateral/BCP51-D.pdf; Description_: 1A Ic, 45V Vce, PNP Medium Power Transistor, SOT-223
pins: 1 B (in), 2 C, 3 E

## BCP53
designator *  value BCP53  Reference: Q
1A Ic, 80V Vce, PNP Medium Power Transistor, SOT-223; ki_keywords: PNP Transistor; ki_fp_filters: SOT?223*; Footprint: Package_TO_SOT_SMD:SOT-223-3_TabPin2; Datasheet: http://www.onsemi.com/pub_link/Collateral/BCP53T1-D.PDF; Description_: 1A Ic, 80V Vce, PNP Medium Power Transistor, SOT-223
pins: 1 B (in), 2 C, 3 E, 4 C

## BCP56
designator *  value BCP56  Reference: Q
1A Ic, 80V Vce, NPN Medium Power Transistor, SOT-223; ki_keywords: NPN Transistor; ki_fp_filters: SOT?223*; Footprint: Package_TO_SOT_SMD:SOT-223-3_TabPin2; Datasheet: https://www.nxp.com/docs/en/data-sheet/BCP56_BCX56_BC56PA.pdf; Description_: 1A Ic, 80V Vce, NPN Medium Power Transistor, SOT-223
pins: 1 B (in), 2 C, 3 E, 4 C

## BCV29
designator *  value BCV29  Reference: Q
NPN Darlington transistor, 30Vce, 500mA, SOT-89; ki_keywords: transistor NPN Darlington; ki_fp_filters: SOT?89*; Footprint: Package_TO_SOT_SMD:SOT-89-3; Datasheet: https://assets.nexperia.com/documents/data-sheet/BCV29_49.pdf; Description_: NPN Darlington transistor, 30Vce, 500mA, SOT-89
pins: 1 B (in), 2 C, 3 E

## BCV49
designator *  value BCV49  Reference: Q
NPN Darlington transistor, 60Vce, 500mA, SOT-89; ki_keywords: transistor NPN Darlington; ki_fp_filters: SOT?89*; Footprint: Package_TO_SOT_SMD:SOT-89-3; Datasheet: https://assets.nexperia.com/documents/data-sheet/BCV29_49.pdf; Description_: NPN Darlington transistor, 60Vce, 500mA, SOT-89
pins: 1 B (in), 2 C, 3 E

## BCV61
designator *  value BCV61  Reference: Q
100mA IC, 30V Vce, Double NPN Transistors, Current mirror configuration, SOT-143; ki_keywords: Transistor Double NPN; ki_fp_filters: SOT?143*; Footprint: Package_TO_SOT_SMD:SOT-143; Datasheet: https://assets.nexperia.com/documents/data-sheet/BCV61.pdf; Description_: 100mA IC, 30V Vce, Double NPN Transistors, Current mirror configuration, SOT-143
pins: 1 C2, 2 C1, 3 E1, 4 E2

## BCV62
designator *  value BCV62  Reference: Q
100mA IC, 30V Vce, Double PNP Transistors, Current mirror configuration, SOT-143; ki_keywords: Transistor Double PNP; ki_fp_filters: SOT?143*; Footprint: Package_TO_SOT_SMD:SOT-143; Datasheet: https://assets.nexperia.com/documents/data-sheet/BCV62.pdf; Description_: 100mA IC, 30V Vce, Double PNP Transistors, Current mirror configuration, SOT-143
pins: 1 C2, 2 C1, 3 E1, 4 E2

## BCX51
designator *  value BCX51  Reference: Q
1A Ic, 45V Vce, PNP Medium Power Transistor, SOT-89; ki_keywords: PNP Transistor; ki_fp_filters: SOT?89*; Footprint: Package_TO_SOT_SMD:SOT-89-3; Datasheet: http://www.infineon.com/dgdl/bcx51_bcx52_bcx53.pdf; Description_: 1A Ic, 45V Vce, PNP Medium Power Transistor, SOT-89
pins: 1 B (in), 2 C, 3 E

## BCX52
designator *  value BCX52  Reference: Q
1A Ic, 60V Vce, PNP Medium Power Transistor, SOT-89; ki_keywords: PNP Transistor; ki_fp_filters: SOT?89*; Footprint: Package_TO_SOT_SMD:SOT-89-3; Datasheet: http://www.infineon.com/dgdl/bcx51_bcx52_bcx53.pdf; Description_: 1A Ic, 60V Vce, PNP Medium Power Transistor, SOT-89
pins: 1 B (in), 2 C, 3 E

## BCX53
designator *  value BCX53  Reference: Q
1A Ic, 80V Vce, PNP Medium Power Transistor, SOT-89; ki_keywords: PNP Transistor; ki_fp_filters: SOT?89*; Footprint: Package_TO_SOT_SMD:SOT-89-3; Datasheet: http://www.infineon.com/dgdl/bcx51_bcx52_bcx53.pdf; Description_: 1A Ic, 80V Vce, PNP Medium Power Transistor, SOT-89
pins: 1 B (in), 2 C, 3 E

## BCX56
designator *  value BCX56  Reference: Q
1A Ic, 80V Vce, NPN Medium Power Transistor, SOT-89; ki_keywords: NPN Transistor; ki_fp_filters: SOT?89*; Footprint: Package_TO_SOT_SMD:SOT-89-3; Datasheet: https://www.nxp.com/docs/en/data-sheet/BCP56_BCX56_BC56PA.pdf; Description_: 1A Ic, 80V Vce, NPN Medium Power Transistor, SOT-89
pins: 1 B (in), 2 C, 3 E

## BD135
designator *  value BD135  Reference: Q
1.5A Ic, 45V Vce, Low Voltage Transistor, TO-126; ki_fp_filters: TO?126*; Footprint: Package_TO_SOT_THT:TO-126-3_Vertical; Datasheet: http://www.st.com/internet/com/TECHNICAL_RESOURCES/TECHNICAL_LITERATURE/DATASHEET/CD00001225.pdf; Description_: 1.5A Ic, 45V Vce, Low Voltage Transistor, TO-126; ki_keywords: Low Voltage Transistor
pins: 1 E, 2 C, 3 B (in)

## BD136
designator *  value BD136  Reference: Q
1.5A Ic, 45V Vce, Low Voltage Transistor, TO-126; ki_fp_filters: TO?126*; Footprint: Package_TO_SOT_THT:TO-126-3_Vertical; Datasheet: http://www.st.com/internet/com/TECHNICAL_RESOURCES/TECHNICAL_LITERATURE/DATASHEET/CD00001225.pdf; Description_: 1.5A Ic, 45V Vce, Low Voltage Transistor, TO-126; ki_keywords: Low Voltage Transistor
pins: 1 E, 2 C, 3 B (in)

## BD137
designator *  value BD137  Reference: Q
1.5A Ic, 60V Vce, Low Voltage Transistor, TO-126; ki_fp_filters: TO?126*; Footprint: Package_TO_SOT_THT:TO-126-3_Vertical; Datasheet: http://www.st.com/internet/com/TECHNICAL_RESOURCES/TECHNICAL_LITERATURE/DATASHEET/CD00001225.pdf; Description_: 1.5A Ic, 60V Vce, Low Voltage Transistor, TO-126; ki_keywords: Low Voltage Transistor
pins: 1 E, 2 C, 3 B (in)

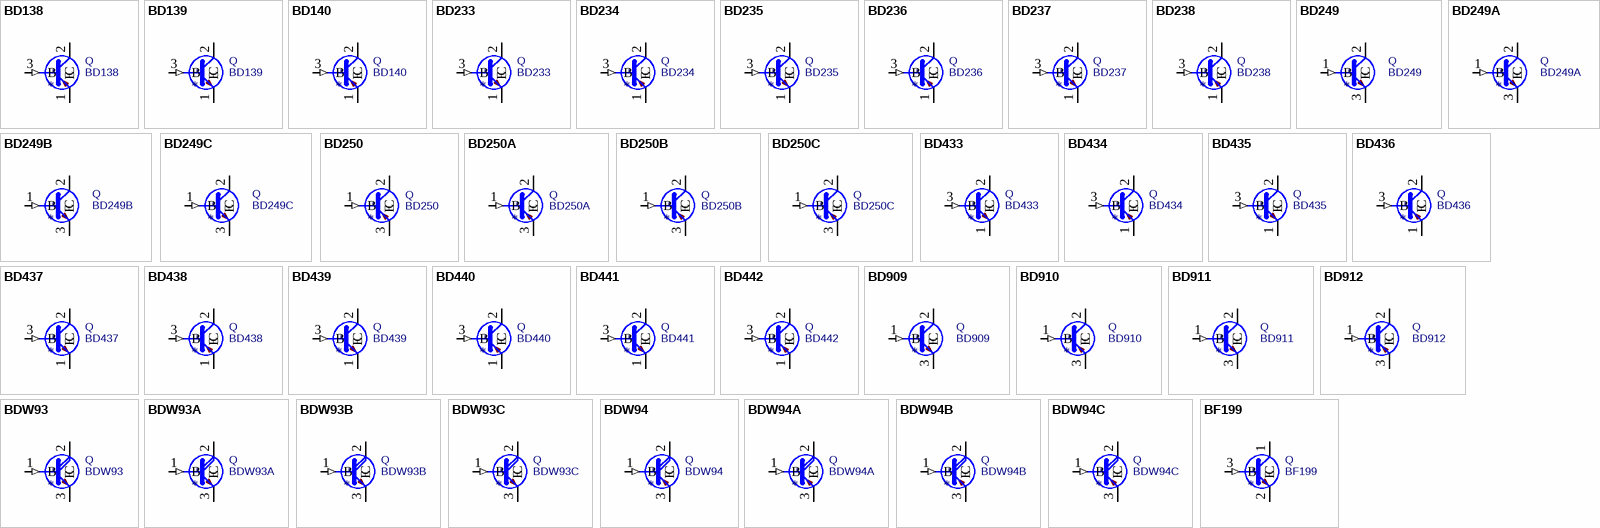
[diagram p3: symbols BD138 to BF199]

## BD138
designator *  value BD138  Reference: Q
1.5A Ic, 60V Vce, Low Voltage Transistor, TO-126; ki_fp_filters: TO?126*; Footprint: Package_TO_SOT_THT:TO-126-3_Vertical; Datasheet: http://www.st.com/internet/com/TECHNICAL_RESOURCES/TECHNICAL_LITERATURE/DATASHEET/CD00001225.pdf; Description_: 1.5A Ic, 60V Vce, Low Voltage Transistor, TO-126; ki_keywords: Low Voltage Transistor
pins: 1 E, 2 C, 3 B (in)

## BD139
designator *  value BD139  Reference: Q
1.5A Ic, 80V Vce, Low Voltage Transistor, TO-126; ki_fp_filters: TO?126*; Footprint: Package_TO_SOT_THT:TO-126-3_Vertical; Datasheet: http://www.st.com/internet/com/TECHNICAL_RESOURCES/TECHNICAL_LITERATURE/DATASHEET/CD00001225.pdf; Description_: 1.5A Ic, 80V Vce, Low Voltage Transistor, TO-126; ki_keywords: Low Voltage Transistor
pins: 1 E, 2 C, 3 B (in)

## BD140
designator *  value BD140  Reference: Q
1.5A Ic, 80V Vce, Low Voltage Transistor, TO-126; ki_fp_filters: TO?126*; Footprint: Package_TO_SOT_THT:TO-126-3_Vertical; Datasheet: http://www.st.com/internet/com/TECHNICAL_RESOURCES/TECHNICAL_LITERATURE/DATASHEET/CD00001225.pdf; Description_: 1.5A Ic, 80V Vce, Low Voltage Transistor, TO-126; ki_keywords: Low Voltage Transistor
pins: 1 E, 2 C, 3 B (in)

## BD233
designator *  value BD233  Reference: Q
2A Ic, 45V Vce, Low Voltage Transistor, TO-126; ki_fp_filters: TO?126*; Footprint: Package_TO_SOT_THT:TO-126-3_Vertical; Datasheet: https://media.digikey.com/pdf/Data%20Sheets/Micro%20Commercial%20PDFs/BD233,235,237.pdf; Description_: 2A Ic, 45V Vce, Low Voltage Transistor, TO-126; ki_keywords: Low Voltage Transistor
pins: 1 E, 2 C, 3 B (in)

## BD234
designator *  value BD234  Reference: Q
2A Ic, 45V Vce, Low Voltage Transistor, TO-126; ki_fp_filters: TO?126*; Footprint: Package_TO_SOT_THT:TO-126-3_Vertical; Datasheet: http://www.electronica-pt.com/datasheets/bd/BD234.pdf; Description_: 2A Ic, 45V Vce, Low Voltage Transistor, TO-126; ki_keywords: Low Voltage Transistor
pins: 1 E, 2 C, 3 B (in)

## BD235
designator *  value BD235  Reference: Q
2A Ic, 60V Vce, Low Voltage Transistor, TO-126; ki_fp_filters: TO?126*; Footprint: Package_TO_SOT_THT:TO-126-3_Vertical; Datasheet: https://media.digikey.com/pdf/Data%20Sheets/Micro%20Commercial%20PDFs/BD233,235,237.pdf; Description_: 2A Ic, 60V Vce, Low Voltage Transistor, TO-126; ki_keywords: Low Voltage Transistor
pins: 1 E, 2 C, 3 B (in)

## BD236
designator *  value BD236  Reference: Q
60V Vce, 2A, Low Voltage Transistor, TO-126; ki_fp_filters: TO?126*; Footprint: Package_TO_SOT_THT:TO-126-3_Vertical; Datasheet: http://www.electronica-pt.com/datasheets/bd/BD234.pdf; Description_: 60V Vce, 2A, Low Voltage Transistor, TO-126; ki_keywords: Low Voltage Transistor
pins: 1 E, 2 C, 3 B (in)

## BD237
designator *  value BD237  Reference: Q
2A Ic, 80V Vce, Low Voltage Transistor, TO-126; ki_fp_filters: TO?126*; Footprint: Package_TO_SOT_THT:TO-126-3_Vertical; Datasheet: https://media.digikey.com/pdf/Data%20Sheets/Micro%20Commercial%20PDFs/BD233,235,237.pdf; Description_: 2A Ic, 80V Vce, Low Voltage Transistor, TO-126; ki_keywords: Low Voltage Transistor
pins: 1 E, 2 C, 3 B (in)

## BD238
designator *  value BD238  Reference: Q
2A Ic, 80V Vce, Low Voltage Transistor, TO-126; ki_fp_filters: TO?126*; Footprint: Package_TO_SOT_THT:TO-126-3_Vertical; Datasheet: http://www.electronica-pt.com/datasheets/bd/BD234.pdf; Description_: 2A Ic, 80V Vce, Low Voltage Transistor, TO-126; ki_keywords: Low Voltage Transistor
pins: 1 E, 2 C, 3 B (in)

## BD249
designator *  value BD249  Reference: Q
25A Ic, 55V Vce, Silicon Power NPN Transistors, SOT-93/TO247; ki_fp_filters: TO?218* TO?247*; Datasheet: http://www.mospec.com.tw/pdf/power/BD249.pdf; Description_: 25A Ic, 55V Vce, Silicon Power NPN Transistors, SOT-93/TO247; ki_keywords: Power NPN Transistor
pins: 1 B (in), 2 C, 3 E

## BD249A
designator *  value BD249A  Reference: Q
25A Ic, 70V Vce, Silicon Power NPN Transistors, SOT-93/TO247; ki_fp_filters: TO?218* TO?247*; Datasheet: http://www.mospec.com.tw/pdf/power/BD249.pdf; Description_: 25A Ic, 70V Vce, Silicon Power NPN Transistors, SOT-93/TO247; ki_keywords: Power NPN Transistor
pins: 1 B (in), 2 C, 3 E

## BD249B
designator *  value BD249B  Reference: Q
25A Ic, 90V Vce, Silicon Power NPN Transistors, SOT-93/TO247; ki_fp_filters: TO?218* TO?247*; Datasheet: http://www.mospec.com.tw/pdf/power/BD249.pdf; Description_: 25A Ic, 90V Vce, Silicon Power NPN Transistors, SOT-93/TO247; ki_keywords: Power NPN Transistor
pins: 1 B (in), 2 C, 3 E

## BD249C
designator *  value BD249C  Reference: Q
25A Ic, 115V Vce, Silicon Power NPN Transistors, SOT-93/TO247; ki_fp_filters: TO?218* TO?247*; Datasheet: http://www.mospec.com.tw/pdf/power/BD249.pdf; Description_: 25A Ic, 115V Vce, Silicon Power NPN Transistors, SOT-93/TO247; ki_keywords: Power NPN Transistor
pins: 1 B (in), 2 C, 3 E

## BD250
designator *  value BD250  Reference: Q
25A Ic, 55V Vce, Silicon Power PNP Transistors, SOT-93/TO247; ki_fp_filters: TO?218* TO?247*; Datasheet: http://www.mospec.com.tw/pdf/power/BD249.pdf; Description_: 25A Ic, 55V Vce, Silicon Power PNP Transistors, SOT-93/TO247; ki_keywords: Power PNP Transistor
pins: 1 B (in), 2 C, 3 E

## BD250A
designator *  value BD250A  Reference: Q
25A Ic, 70V Vce, Silicon Power PNP Transistors, SOT-93/TO247; ki_fp_filters: TO?218* TO?247*; Datasheet: http://www.mospec.com.tw/pdf/power/BD249.pdf; Description_: 25A Ic, 70V Vce, Silicon Power PNP Transistors, SOT-93/TO247; ki_keywords: Power PNP Transistor
pins: 1 B (in), 2 C, 3 E

## BD250B
designator *  value BD250B  Reference: Q
25A Ic, 90V Vce, Silicon Power PNP Transistors, SOT-93/TO247; ki_fp_filters: TO?218* TO?247*; Datasheet: http://www.mospec.com.tw/pdf/power/BD249.pdf; Description_: 25A Ic, 90V Vce, Silicon Power PNP Transistors, SOT-93/TO247; ki_keywords: Power PNP Transistor
pins: 1 B (in), 2 C, 3 E

## BD250C
designator *  value BD250C  Reference: Q
25A Ic, 115V Vce, Silicon Power PNP Transistors, SOT-93/TO247; ki_fp_filters: TO?218* TO?247*; Datasheet: http://www.mospec.com.tw/pdf/power/BD249.pdf; Description_: 25A Ic, 115V Vce, Silicon Power PNP Transistors, SOT-93/TO247; ki_keywords: Power PNP Transistor
pins: 1 B (in), 2 C, 3 E

## BD433
designator *  value BD433  Reference: Q
4A Ic, 22V Vce, Power NPN Transistor, TO-126; ki_fp_filters: TO?126*; Footprint: Package_TO_SOT_THT:TO-126-3_Vertical; Datasheet: http://www.cdil.com/datasheets/bd433_42.pdf; Description_: 4A Ic, 22V Vce, Power NPN Transistor, TO-126; ki_keywords: Power NPN Transistor
pins: 1 E, 2 C, 3 B (in)

## BD434
designator *  value BD434  Reference: Q
4A Ic, 22V Vce, Power PNP Transistor, TO-126; ki_fp_filters: TO?126*; Footprint: Package_TO_SOT_THT:TO-126-3_Vertical; Datasheet: http://www.cdil.com/datasheets/bd433_42.pdf; Description_: 4A Ic, 22V Vce, Power PNP Transistor, TO-126; ki_keywords: Power PNP Transistor
pins: 1 E, 2 C, 3 B (in)

## BD435
designator *  value BD435  Reference: Q
4A Ic, 32V Vce, Power NPN Transistor, TO-126; ki_fp_filters: TO?126*; Footprint: Package_TO_SOT_THT:TO-126-3_Vertical; Datasheet: http://www.cdil.com/datasheets/bd433_42.pdf; Description_: 4A Ic, 32V Vce, Power NPN Transistor, TO-126; ki_keywords: Power NPN Transistor
pins: 1 E, 2 C, 3 B (in)

## BD436
designator *  value BD436  Reference: Q
4A Ic, 32V Vce, Power PNP Transistor, TO-126; ki_fp_filters: TO?126*; Footprint: Package_TO_SOT_THT:TO-126-3_Vertical; Datasheet: http://www.cdil.com/datasheets/bd433_42.pdf; Description_: 4A Ic, 32V Vce, Power PNP Transistor, TO-126; ki_keywords: Power PNP Transistor
pins: 1 E, 2 C, 3 B (in)

## BD437
designator *  value BD437  Reference: Q
4A Ic, 45V Vce, Power NPN Transistor, TO-126; ki_fp_filters: TO?126*; Footprint: Package_TO_SOT_THT:TO-126-3_Vertical; Datasheet: http://www.cdil.com/datasheets/bd433_42.pdf; Description_: 4A Ic, 45V Vce, Power NPN Transistor, TO-126; ki_keywords: Power NPN Transistor
pins: 1 E, 2 C, 3 B (in)

## BD438
designator *  value BD438  Reference: Q
4A Ic, 45V Vce, Power PNP Transistor, TO-126; ki_fp_filters: TO?126*; Footprint: Package_TO_SOT_THT:TO-126-3_Vertical; Datasheet: http://www.cdil.com/datasheets/bd433_42.pdf; Description_: 4A Ic, 45V Vce, Power PNP Transistor, TO-126; ki_keywords: Power PNP Transistor
pins: 1 E, 2 C, 3 B (in)

## BD439
designator *  value BD439  Reference: Q
4A Ic, 60V Vce, Power NPN Transistor, TO-126; ki_fp_filters: TO?126*; Footprint: Package_TO_SOT_THT:TO-126-3_Vertical; Datasheet: http://www.cdil.com/datasheets/bd433_42.pdf; Description_: 4A Ic, 60V Vce, Power NPN Transistor, TO-126; ki_keywords: Power NPN Transistor
pins: 1 E, 2 C, 3 B (in)

## BD440
designator *  value BD440  Reference: Q
4A Ic, 60V Vce, Power PNP Transistor, TO-126; ki_fp_filters: TO?126*; Footprint: Package_TO_SOT_THT:TO-126-3_Vertical; Datasheet: http://www.cdil.com/datasheets/bd433_42.pdf; Description_: 4A Ic, 60V Vce, Power PNP Transistor, TO-126; ki_keywords: Power PNP Transistor
pins: 1 E, 2 C, 3 B (in)

## BD441
designator *  value BD441  Reference: Q
4A Ic, 80V Vce, Power NPN Transistor, TO-126; ki_fp_filters: TO?126*; Footprint: Package_TO_SOT_THT:TO-126-3_Vertical; Datasheet: http://www.cdil.com/datasheets/bd433_42.pdf; Description_: 4A Ic, 80V Vce, Power NPN Transistor, TO-126; ki_keywords: Power NPN Transistor
pins: 1 E, 2 C, 3 B (in)

## BD442
designator *  value BD442  Reference: Q
4A Ic, 80V Vce, Power PNP Transistor, TO-126; ki_fp_filters: TO?126*; Footprint: Package_TO_SOT_THT:TO-126-3_Vertical; Datasheet: http://www.cdil.com/datasheets/bd433_42.pdf; Description_: 4A Ic, 80V Vce, Power PNP Transistor, TO-126; ki_keywords: Power PNP Transistor
pins: 1 E, 2 C, 3 B (in)